# Altium schematic symbol library SynthyTwo.Components.SchLib: 11 symbols
Pins are listed as number, name and electrical type; pins without a type are passive.

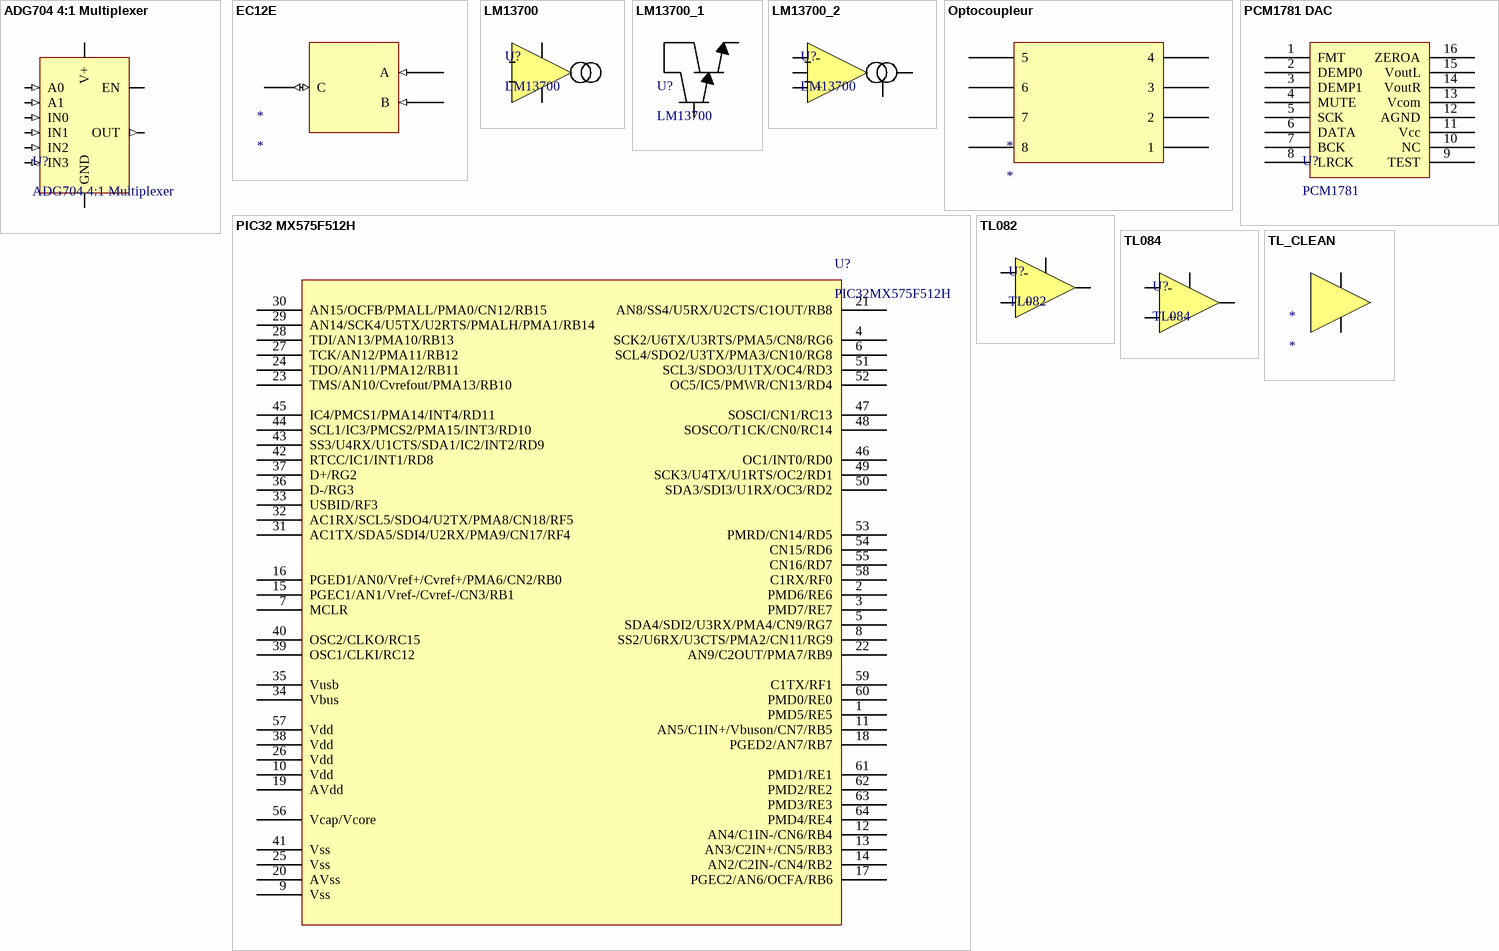
[diagram p0: symbols ADG704 4:1 Multiplexer to TL_CLEAN]

## ADG704 4:1 Multiplexer
designator U?
pins: A0 (in), A1 (in), EN, GND (power), IN0 (in), IN1 (in), IN2 (in), IN3 (in), OUT (out), V+ (power)

## EC12E
designator *
pins: 1 A (in), 2 B (in), 3 C (io)

## LM13700
designator U?
pins: 6 VCC-, 6 VCC-

## LM13700_1
designator U?, comment LM13700
pins: 1 BIN, 2 V+

## LM13700_2
designator U?, comment LM13700
pins: 1 BIAS, 2, 3 +, 4 -, 5 OUT

## Optocoupleur
designator *
pins: 1, 2, 3, 4, 5, 6, 7, 8

## PCM1781 DAC
designator U?, comment PCM1781
pins: 1 FMT, 2 DEMP0, 3 DEMP1, 4 MUTE, 5 SCK, 6 DATA, 7 BCK, 8 LRCK, 9 TEST, 10 NC, 11 Vcc, 12 AGND, 13 Vcom, 14 VoutR, 15 VoutL, 16 ZEROA

## PIC32 MX575F512H
designator U?, comment PIC32MX575F512H
pins: 1 PMD5/RE5, 2 PMD6/RE6, 3 PMD7/RE7, 4 SCK2/U6TX/U3RTS/PMA5/CN8/RG6, 5 SDA4/SDI2/U3RX/PMA4/CN9/RG7, 6 SCL4/SDO2/U3TX/PMA3/CN10/RG8, 7 MCLR, 8 SS2/U6RX/U3CTS/PMA2/CN11/RG9, 9 Vss, 10 Vdd, 11 AN5/C1IN+/Vbuson/CN7/RB5, 12 AN4/C1IN-/CN6/RB4, 13 AN3/C2IN+/CN5/RB3, 14 AN2/C2IN-/CN4/RB2, 15 PGEC1/AN1/Vref-/Cvref-/CN3/RB1, 16 PGED1/AN0/Vref+/Cvref+/PMA6/CN2/RB0, 17 PGEC2/AN6/OCFA/RB6, 18 PGED2/AN7/RB7, 19 AVdd, 20 AVss, 21 AN8/SS4/U5RX/U2CTS/C1OUT/RB8, 22 AN9/C2OUT/PMA7/RB9, 23 TMS/AN10/Cvrefout/PMA13/RB10, 24 TDO/AN11/PMA12/RB11, 25 Vss, 26 Vdd, 27 TCK/AN12/PMA11/RB12, 28 TDI/AN13/PMA10/RB13, 29 AN14/SCK4/U5TX/U2RTS/PMALH/PMA1/RB14, 30 AN15/OCFB/PMALL/PMA0/CN12/RB15, 31 AC1TX/SDA5/SDI4/U2RX/PMA9/CN17/RF4, 32 AC1RX/SCL5/SDO4/U2TX/PMA8/CN18/RF5, 33 USBID/RF3, 34 Vbus, 35 Vusb, 36 D-/RG3, 37 D+/RG2, 38 Vdd, 39 OSC1/CLKI/RC12, 40 OSC2/CLKO/RC15, 41 Vss, 42 RTCC/IC1/INT1/RD8, 43 SS3/U4RX/U1CTS/SDA1/IC2/INT2/RD9, 44 SCL1/IC3/PMCS2/PMA15/INT3/RD10, 45 IC4/PMCS1/PMA14/INT4/RD11, 46 OC1/INT0/RD0, 47 SOSCI/CN1/RC13, 48 SOSCO/T1CK/CN0/RC14, 49 SCK3/U4TX/U1RTS/OC2/RD1, 50 SDA3/SDI3/U1RX/OC3/RD2, 51 SCL3/SDO3/U1TX/OC4/RD3, 52 OC5/IC5/PMWR/CN13/RD4, 53 PMRD/CN14/RD5, 54 CN15/RD6, 55 CN16/RD7, 56 Vcap/Vcore, 57 Vdd, 58 C1RX/RF0, 59 C1TX/RF1, 60 PMD0/RE0, 61 PMD1/RE1, 62 PMD2/RE2, 63 PMD3/RE3, 64 PMD4/RE4

## TL082
designator U?
pins: 1 OUT, 2 -, 3 +, 4 VCC+

## TL084
designator U?
pins: 1 OUT, 2 -, 3 +, 4 VCC+

## TL_CLEAN
designator *
pins: 1 VCC+, 2 VCC-